# EAGLE library part PIC32MX795F512L-80I/P (library Parts for D-DAQ)
PIC32MX795 Microcontroller
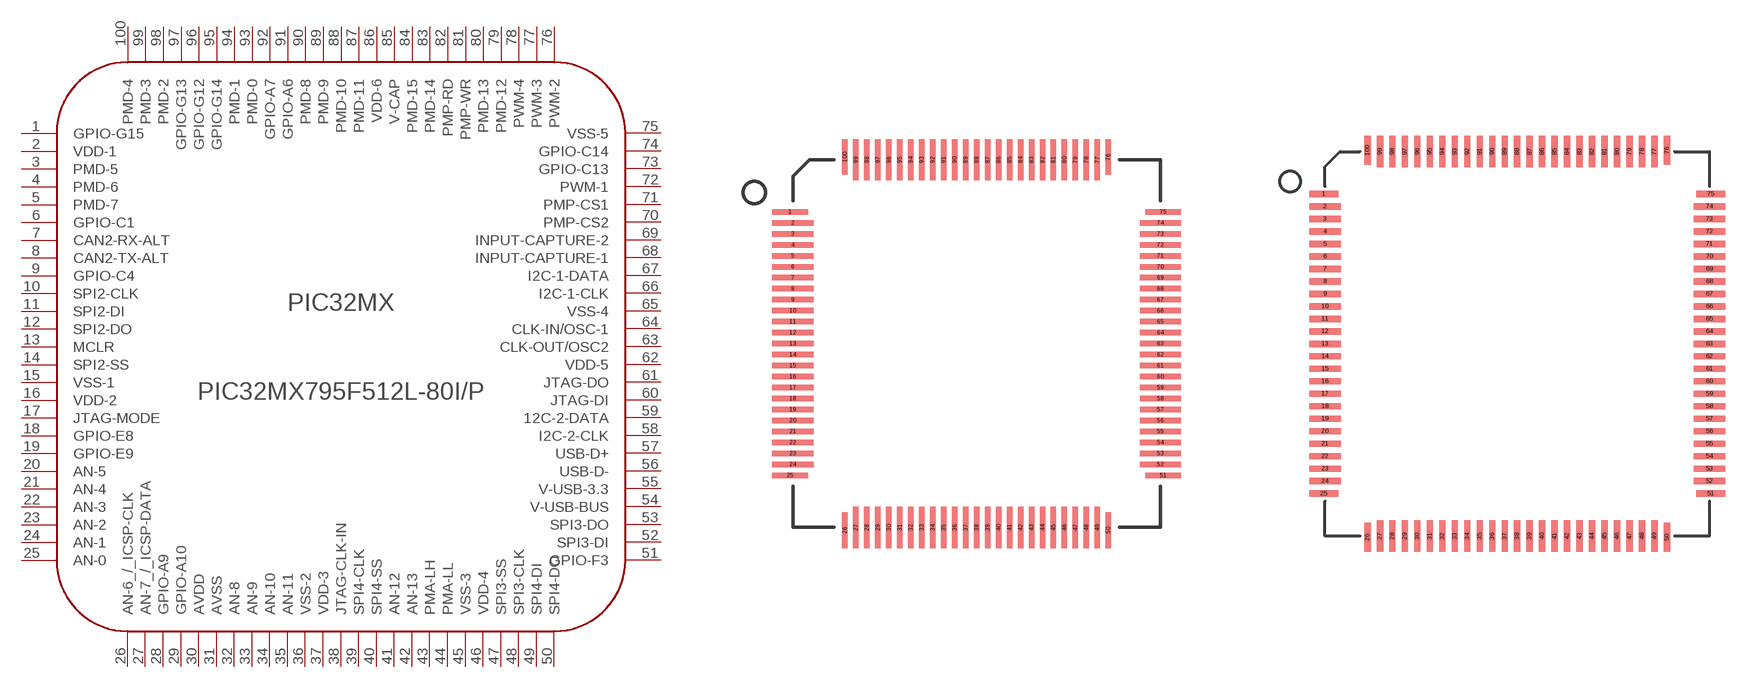
[diagram p0: symbol with the pads of TQFP-100-12X12; footprints TQFP-100-12X12, TQFP-100-14X14]

Designator prefix -

## PIC32MX795F512L-80I/PT  [TQFP-100-12X12]
1  GPIO-G15
2  VDD-1  pwr
3  PMD-5
4  PMD-6
5  PMD-7
6  GPIO-C1
7  CAN2-RX-ALT
8  CAN2-TX-ALT
9  GPIO-C4
10  SPI2-CLK  out
11  SPI2-DI  in
12  SPI2-DO  out
13  MCLR
14  SPI2-SS  out
15  VSS-1  pwr
16  VDD-2  pwr
17  JTAG-MODE  in
18  GPIO-E8
19  GPIO-E9
20  AN-5  in
21  AN-4  in
22  AN-3  in
23  AN-2  in
24  AN-1  in
25  AN-0  in
26  AN-6_/_ICSP-CLK
27  AN-7_/_ICSP-DATA
28  GPIO-A9
29  GPIO-A10
30  AVDD  pwr
31  AVSS  pwr
32  AN-8  in
33  AN-9  in
34  AN-10  in
35  AN-11  in
36  VSS-2
37  VDD-3  pwr
38  JTAG-CLK-IN  in
39  SPI4-CLK  out
40  SPI4-SS  out
41  AN-12  in
42  AN-13  in
43  PMA-LH
44  PMA-LL
45  VSS-3
46  VDD-4  pwr
47  SPI3-SS  out
48  SPI3-CLK  out
49  SPI4-DI  in
50  SPI4-DO  out
51  GPIO-F3  nc
52  SPI3-DI  in
53  SPI3-DO  out
54  V-USB-BUS  in
55  V-USB-3.3  pwr
56  USB-D-
57  USB-D+
58  I2C-2-CLK  out
59  12C-2-DATA
60  JTAG-DI  in
61  JTAG-DO  out
62  VDD-5  pwr
63  CLK-OUT/OSC2
64  CLK-IN/OSC-1
65  VSS-4
66  I2C-1-CLK
67  I2C-1-DATA
68  INPUT-CAPTURE-1
69  INPUT-CAPTURE-2
70  PMP-CS2
71  PMP-CS1
72  PWM-1  out
73  GPIO-C13
74  GPIO-C14
75  VSS-5
76  PWM-2  out
77  PWM-3  out
78  PWM-4  out
79  PMD-12
80  PMD-13
81  PMP-WR
82  PMP-RD
83  PMD-14
84  PMD-15
85  V-CAP  pas
86  VDD-6  pwr
87  PMD-11
88  PMD-10
89  PMD-9
90  PMD-8
91  GPIO-A6
92  GPIO-A7
93  PMD-0
94  PMD-1
95  GPIO-G14
96  GPIO-G12
97  GPIO-G13
98  PMD-2
99  PMD-3
100  PMD-4

## PIC32MX795F512L-80I/PF  [TQFP-100-14X14]
Pads as for TQFP-100-12X12

## Footprint TQFP-100-12X12 (pad centres in mm)
smd 1.3 x 0.2: 1 -6.8,4.8; 25 -6.8,-4.8; 51 6.8,-4.8; 75 6.8,4.8
smd 1.5 x 0.2: 2 -6.7,4.4; 3 -6.7,4; 4 -6.7,3.6; 5 -6.7,3.2; 6 -6.7,2.8; 7 -6.7,2.4; 8 -6.7,2; 9 -6.7,1.6; 10 -6.7,1.2; 11 -6.7,0.8; 12 -6.7,0.4; 13 -6.7,0; 14 -6.7,-0.4; 15 -6.7,-0.8; 16 -6.7,-1.2; 17 -6.7,-1.6; 18 -6.7,-2; 19 -6.7,-2.4; 20 -6.7,-2.8; 21 -6.7,-3.2; 22 -6.7,-3.6; 23 -6.7,-4; 24 -6.7,-4.4; 52 6.7,-4.4; 53 6.7,-4; 54 6.7,-3.6; 55 6.7,-3.2; 56 6.7,-2.8; 57 6.7,-2.4; 58 6.7,-2; 59 6.7,-1.6; 60 6.7,-1.2; 61 6.7,-0.8; 62 6.7,-0.4; 63 6.7,0; 64 6.7,0.4; 65 6.7,0.8; 66 6.7,1.2; 67 6.7,1.6; 68 6.7,2; 69 6.7,2.4; 70 6.7,2.8; 71 6.7,3.2; 72 6.7,3.6; 73 6.7,4; 74 6.7,4.4
smd 0.2 x 1.3: 26 -4.8,-6.8; 50 4.8,-6.8; 76 4.8,6.8; 100 -4.8,6.8
smd 0.2 x 1.5: 27 -4.4,-6.7; 28 -4,-6.7; 29 -3.6,-6.7; 30 -3.2,-6.7; 31 -2.8,-6.7; 32 -2.4,-6.7; 33 -2,-6.7; 34 -1.6,-6.7; 35 -1.2,-6.7; 36 -0.8,-6.7; 37 -0.4,-6.7; 38 0,-6.7; 39 0.4,-6.7; 40 0.8,-6.7; 41 1.2,-6.7; 42 1.6,-6.7; 43 2,-6.7; 44 2.4,-6.7; 45 2.8,-6.7; 46 3.2,-6.7; 47 3.6,-6.7; 48 4,-6.7; 49 4.4,-6.7; 77 4.4,6.7; 78 4,6.7; 79 3.6,6.7; 80 3.2,6.7; 81 2.8,6.7; 82 2.4,6.7; 83 2,6.7; 84 1.6,6.7; 85 1.2,6.7; 86 0.8,6.7; 87 0.4,6.7; 88 0,6.7; 89 -0.4,6.7; 90 -0.8,6.7; 91 -1.2,6.7; 92 -1.6,6.7; 93 -2,6.7; 94 -2.4,6.7; 95 -2.8,6.7; 96 -3.2,6.7; 97 -3.6,6.7; 98 -4,6.7; 99 -4.4,6.7

## Footprint TQFP-100-14X14 (pad centres in mm)
smd 1.15 x 0.254: 1 -7.75,6; 25 -7.75,-6; 51 7.75,-6; 75 7.75,6
smd 1.25 x 0.254: 2 -7.7,5.5; 3 -7.7,5; 4 -7.7,4.5; 5 -7.7,4; 6 -7.7,3.5; 7 -7.7,3; 8 -7.7,2.5; 9 -7.7,2; 10 -7.7,1.5; 11 -7.7,1; 12 -7.7,0.5; 13 -7.7,0; 14 -7.7,-0.5; 15 -7.7,-1; 16 -7.7,-1.5; 17 -7.7,-2; 18 -7.7,-2.5; 19 -7.7,-3; 20 -7.7,-3.5; 21 -7.7,-4; 22 -7.7,-4.5; 23 -7.7,-5; 24 -7.7,-5.5; 52 7.7,-5.5; 53 7.7,-5; 54 7.7,-4.5; 55 7.7,-4; 56 7.7,-3.5; 57 7.7,-3; 58 7.7,-2.5; 59 7.7,-2; 60 7.7,-1.5; 61 7.7,-1; 62 7.7,-0.5; 63 7.7,0; 64 7.7,0.5; 65 7.7,1; 66 7.7,1.5; 67 7.7,2; 68 7.7,2.5; 69 7.7,3; 70 7.7,3.5; 71 7.7,4; 72 7.7,4.5; 73 7.7,5; 74 7.7,5.5
smd 0.254 x 1.15: 26 -6,-7.75; 50 6,-7.75; 76 6,7.75; 100 -6,7.75
smd 0.254 x 1.25: 27 -5.5,-7.7; 28 -5,-7.7; 29 -4.5,-7.7; 30 -4,-7.7; 31 -3.5,-7.7; 32 -3,-7.7; 33 -2.5,-7.7; 34 -2,-7.7; 35 -1.5,-7.7; 36 -1,-7.7; 37 -0.5,-7.7; 38 0,-7.7; 39 0.5,-7.7; 40 1,-7.7; 41 1.5,-7.7; 42 2,-7.7; 43 2.5,-7.7; 44 3,-7.7; 45 3.5,-7.7; 46 4,-7.7; 47 4.5,-7.7; 48 5,-7.7; 49 5.5,-7.7; 77 5.5,7.7; 78 5,7.7; 79 4.5,7.7; 80 4,7.7; 81 3.5,7.7; 82 3,7.7; 83 2.5,7.7; 84 2,7.7; 85 1.5,7.7; 86 1,7.7; 87 0.5,7.7; 88 0,7.7; 89 -0.5,7.7; 90 -1,7.7; 91 -1.5,7.7; 92 -2,7.7; 93 -2.5,7.7; 94 -3,7.7; 95 -3.5,7.7; 96 -4,7.7; 97 -4.5,7.7; 98 -5,7.7; 99 -5.5,7.7